# EAGLE library part DRV8870 (library Eagle_Lib_IUT)
3.6A / 6.5 - 45V Brushed DC Motor Driver (PWM Control) datasheet <http://www.ti.com/lit/ds/symlink/drv8870.pdf>
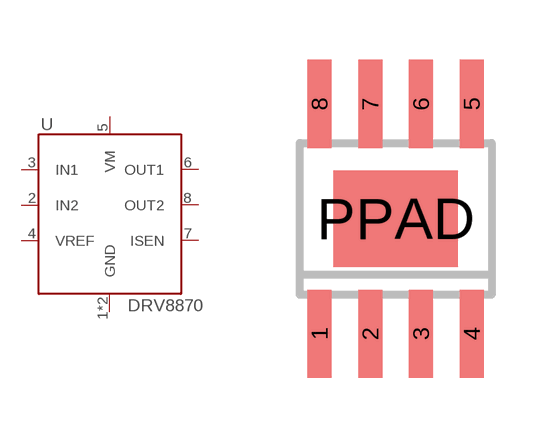
[diagram p2: symbol with the pads of SO08-POWERPAD; footprint SO08-POWERPAD]

Designator prefix U

## DRV8870DDA  [SO08-POWERPAD]
1  GND
2  IN2
3  IN1
4  VREF
5  VM
6  OUT1
7  ISEN
8  OUT2
PPAD  GND

## Footprint SO08-POWERPAD (pad centres in mm)
Small Outline Package 8 with Power PAD
smd 0.6 x 2.2: 1 -1.905,-2.875; 2 -0.635,-2.875; 3 0.635,-2.875; 4 1.905,-2.875; 5 1.905,2.875; 6 0.635,2.875; 7 -0.635,2.875; 8 -1.905,2.875
smd 3.1 x 2.4: PPAD 0,0